# Altium footprint library QFP_Shrink_Sq_50P_Side_N.PcbLib: 32 footprints (part 2 of 3)
Each footprint in its own frame and in the unit in brackets; x right, y up, seen from the top. Pads: shape width x height; smd on the part's side, far side on the other; paste and mask are expansions set on the pad; w line width, h text height; cw(c..) or ccw(c..) is an arc to the next point about the centre after c.
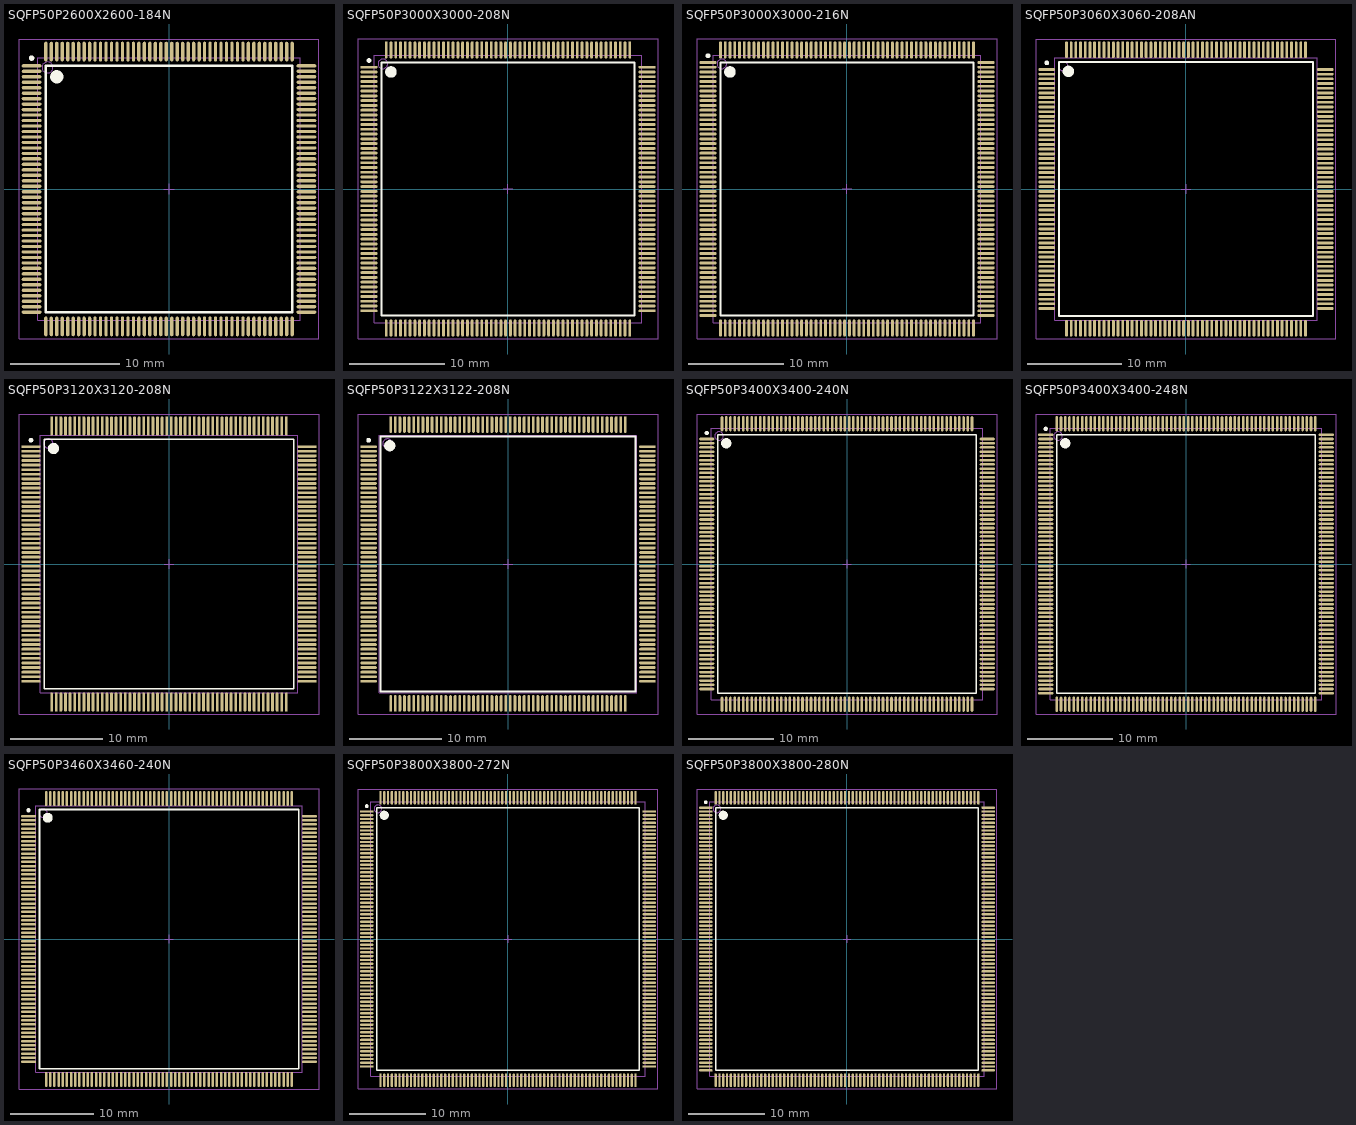
[diagram p1: the footprints below, top view; thin cyan lines are the x and y axes]

## SQFP50P2600X2600-184N [mm] "Shrink QFP, 184-Leads, Body 24x24mm, Pitch 0.5mm, IPC Medium Density"
height 3.2
pads (184):
  oval 1.8x0.3 smd: 1(-12.55,11.25) 2(-12.55,10.75) 3(-12.55,10.25) 4(-12.55,9.75) 5(-12.55,9.25) 6(-12.55,8.75) 7(-12.55,8.25) 8(-12.55,7.75) 9(-12.55,7.25) 10(-12.55,6.75) 11(-12.55,6.25) 12(-12.55,5.75) 13(-12.55,5.25) 14(-12.55,4.75) 15(-12.55,4.25) 16(-12.55,3.75) 17(-12.55,3.25) 18(-12.55,2.75) 19(-12.55,2.25) 20(-12.55,1.75) 21(-12.55,1.25) 22(-12.55,0.75) 23(-12.55,0.25) 24(-12.55,-0.25) 25(-12.55,-0.75) 26(-12.55,-1.25) 27(-12.55,-1.75) 28(-12.55,-2.25) 29(-12.55,-2.75) 30(-12.55,-3.25) 31(-12.55,-3.75) 32(-12.55,-4.25) 33(-12.55,-4.75) 34(-12.55,-5.25) 35(-12.55,-5.75) 36(-12.55,-6.25) 37(-12.55,-6.75) 38(-12.55,-7.25) 39(-12.55,-7.75) 40(-12.55,-8.25) 41(-12.55,-8.75) 42(-12.55,-9.25) 43(-12.55,-9.75) 44(-12.55,-10.25) 45(-12.55,-10.75) 46(-12.55,-11.25) 93(12.55,-11.25) 94(12.55,-10.75) 95(12.55,-10.25) 96(12.55,-9.75) 97(12.55,-9.25) 98(12.55,-8.75) 99(12.55,-8.25) 100(12.55,-7.75) 101(12.55,-7.25) 102(12.55,-6.75) 103(12.55,-6.25) 104(12.55,-5.75) 105(12.55,-5.25) 106(12.55,-4.75) 107(12.55,-4.25) 108(12.55,-3.75) 109(12.55,-3.25) 110(12.55,-2.75) 111(12.55,-2.25) 112(12.55,-1.75) 113(12.55,-1.25) 114(12.55,-0.75) 115(12.55,-0.25) 116(12.55,0.25) 117(12.55,0.75) 118(12.55,1.25) 119(12.55,1.75) 120(12.55,2.25) 121(12.55,2.75) 122(12.55,3.25) 123(12.55,3.75) 124(12.55,4.25) 125(12.55,4.75) 126(12.55,5.25) 127(12.55,5.75) 128(12.55,6.25) 129(12.55,6.75) 130(12.55,7.25) 131(12.55,7.75) 132(12.55,8.25) 133(12.55,8.75) 134(12.55,9.25) 135(12.55,9.75) 136(12.55,10.25) 137(12.55,10.75) 138(12.55,11.25)
  oval 0.3x1.8 smd: 47(-11.25,-12.55) 48(-10.75,-12.55) 49(-10.25,-12.55) 50(-9.75,-12.55) 51(-9.25,-12.55) 52(-8.75,-12.55) 53(-8.25,-12.55) 54(-7.75,-12.55) 55(-7.25,-12.55) 56(-6.75,-12.55) 57(-6.25,-12.55) 58(-5.75,-12.55) 59(-5.25,-12.55) 60(-4.75,-12.55) 61(-4.25,-12.55) 62(-3.75,-12.55) 63(-3.25,-12.55) 64(-2.75,-12.55) 65(-2.25,-12.55) 66(-1.75,-12.55) 67(-1.25,-12.55) 68(-0.75,-12.55) 69(-0.25,-12.55) 70(0.25,-12.55) 71(0.75,-12.55) 72(1.25,-12.55) 73(1.75,-12.55) 74(2.25,-12.55) 75(2.75,-12.55) 76(3.25,-12.55) 77(3.75,-12.55) 78(4.25,-12.55) 79(4.75,-12.55) 80(5.25,-12.55) 81(5.75,-12.55) 82(6.25,-12.55) 83(6.75,-12.55) 84(7.25,-12.55) 85(7.75,-12.55) 86(8.25,-12.55) 87(8.75,-12.55) 88(9.25,-12.55) 89(9.75,-12.55) 90(10.25,-12.55) 91(10.75,-12.55) 92(11.25,-12.55) 139(11.25,12.55) 140(10.75,12.55) 141(10.25,12.55) 142(9.75,12.55) 143(9.25,12.55) 144(8.75,12.55) 145(8.25,12.55) 146(7.75,12.55) 147(7.25,12.55) 148(6.75,12.55) 149(6.25,12.55) 150(5.75,12.55) 151(5.25,12.55) 152(4.75,12.55) 153(4.25,12.55) 154(3.75,12.55) 155(3.25,12.55) 156(2.75,12.55) 157(2.25,12.55) 158(1.75,12.55) 159(1.25,12.55) 160(0.75,12.55) 161(0.25,12.55) 162(-0.25,12.55) 163(-0.75,12.55) 164(-1.25,12.55) 165(-1.75,12.55) 166(-2.25,12.55) 167(-2.75,12.55) 168(-3.25,12.55) 169(-3.75,12.55) 170(-4.25,12.55) 171(-4.75,12.55) 172(-5.25,12.55) 173(-5.75,12.55) 174(-6.25,12.55) 175(-6.75,12.55) 176(-7.25,12.55) 177(-7.75,12.55) 178(-8.25,12.55) 179(-8.75,12.55) 180(-9.25,12.55) 181(-9.75,12.55) 182(-10.25,12.55) 183(-10.75,12.55) 184(-11.25,12.55)
Top Overlay:
  circle w0.6: c-10.25,10.25 r0.3
  circle w0.25: c-12.55,11.95 r0.125
  lines w0.2: -11.25,-11.25 11.25,-11.25 11.25,11.25 -11.25,11.25 -11.25,-11.25
Mechanical 13:
  circle w0.1: c-11.1,11.1 r0.5
  lines w0.1: -12,-12 12,-12 12,12 -12,12 -12,-12
Mechanical 15:
  lines w0.1: -0.5,0 0.5,0 ; 0,-0.5 0,0.5 ; -13.7,-13.7 13.7,-13.7 13.7,13.7 -13.7,13.7 -13.7,-13.7
3D body: height 3.2, standoff 0, extent -12,-12 12,12

## SQFP50P3000X3000-208N [mm] "Shrink QFP, 208-Leads, Body 28x28mm, Pitch 0.5mm, IPC Medium Density"
height 3.75
pads (208):
  oval 1.8x0.3 smd: 1(-14.55,12.75) 2(-14.55,12.25) 3(-14.55,11.75) 4(-14.55,11.25) 5(-14.55,10.75) 6(-14.55,10.25) 7(-14.55,9.75) 8(-14.55,9.25) 9(-14.55,8.75) 10(-14.55,8.25) 11(-14.55,7.75) 12(-14.55,7.25) 13(-14.55,6.75) 14(-14.55,6.25) 15(-14.55,5.75) 16(-14.55,5.25) 17(-14.55,4.75) 18(-14.55,4.25) 19(-14.55,3.75) 20(-14.55,3.25) 21(-14.55,2.75) 22(-14.55,2.25) 23(-14.55,1.75) 24(-14.55,1.25) 25(-14.55,0.75) 26(-14.55,0.25) 27(-14.55,-0.25) 28(-14.55,-0.75) 29(-14.55,-1.25) 30(-14.55,-1.75) 31(-14.55,-2.25) 32(-14.55,-2.75) 33(-14.55,-3.25) 34(-14.55,-3.75) 35(-14.55,-4.25) 36(-14.55,-4.75) 37(-14.55,-5.25) 38(-14.55,-5.75) 39(-14.55,-6.25) 40(-14.55,-6.75) 41(-14.55,-7.25) 42(-14.55,-7.75) 43(-14.55,-8.25) 44(-14.55,-8.75) 45(-14.55,-9.25) 46(-14.55,-9.75) 47(-14.55,-10.25) 48(-14.55,-10.75) 49(-14.55,-11.25) 50(-14.55,-11.75) 51(-14.55,-12.25) 52(-14.55,-12.75) 105(14.55,-12.75) 106(14.55,-12.25) 107(14.55,-11.75) 108(14.55,-11.25) 109(14.55,-10.75) 110(14.55,-10.25) 111(14.55,-9.75) 112(14.55,-9.25) 113(14.55,-8.75) 114(14.55,-8.25) 115(14.55,-7.75) 116(14.55,-7.25) 117(14.55,-6.75) 118(14.55,-6.25) 119(14.55,-5.75) 120(14.55,-5.25) 121(14.55,-4.75) 122(14.55,-4.25) 123(14.55,-3.75) 124(14.55,-3.25) 125(14.55,-2.75) 126(14.55,-2.25) 127(14.55,-1.75) 128(14.55,-1.25) 129(14.55,-0.75) 130(14.55,-0.25) 131(14.55,0.25) 132(14.55,0.75) 133(14.55,1.25) 134(14.55,1.75) 135(14.55,2.25) 136(14.55,2.75) 137(14.55,3.25) 138(14.55,3.75) 139(14.55,4.25) 140(14.55,4.75) 141(14.55,5.25) 142(14.55,5.75) 143(14.55,6.25) 144(14.55,6.75) 145(14.55,7.25) 146(14.55,7.75) 147(14.55,8.25) 148(14.55,8.75) 149(14.55,9.25) 150(14.55,9.75) 151(14.55,10.25) 152(14.55,10.75) 153(14.55,11.25) 154(14.55,11.75) 155(14.55,12.25) 156(14.55,12.75)
  oval 0.3x1.8 smd: 53(-12.75,-14.55) 54(-12.25,-14.55) 55(-11.75,-14.55) 56(-11.25,-14.55) 57(-10.75,-14.55) 58(-10.25,-14.55) 59(-9.75,-14.55) 60(-9.25,-14.55) 61(-8.75,-14.55) 62(-8.25,-14.55) 63(-7.75,-14.55) 64(-7.25,-14.55) 65(-6.75,-14.55) 66(-6.25,-14.55) 67(-5.75,-14.55) 68(-5.25,-14.55) 69(-4.75,-14.55) 70(-4.25,-14.55) 71(-3.75,-14.55) 72(-3.25,-14.55) 73(-2.75,-14.55) 74(-2.25,-14.55) 75(-1.75,-14.55) 76(-1.25,-14.55) 77(-0.75,-14.55) 78(-0.25,-14.55) 79(0.25,-14.55) 80(0.75,-14.55) 81(1.25,-14.55) 82(1.75,-14.55) 83(2.25,-14.55) 84(2.75,-14.55) 85(3.25,-14.55) 86(3.75,-14.55) 87(4.25,-14.55) 88(4.75,-14.55) 89(5.25,-14.55) 90(5.75,-14.55) 91(6.25,-14.55) 92(6.75,-14.55) 93(7.25,-14.55) 94(7.75,-14.55) 95(8.25,-14.55) 96(8.75,-14.55) 97(9.25,-14.55) 98(9.75,-14.55) 99(10.25,-14.55) 100(10.75,-14.55) 101(11.25,-14.55) 102(11.75,-14.55) 103(12.25,-14.55) 104(12.75,-14.55) 157(12.75,14.55) 158(12.25,14.55) 159(11.75,14.55) 160(11.25,14.55) 161(10.75,14.55) 162(10.25,14.55) 163(9.75,14.55) 164(9.25,14.55) 165(8.75,14.55) 166(8.25,14.55) 167(7.75,14.55) 168(7.25,14.55) 169(6.75,14.55) 170(6.25,14.55) 171(5.75,14.55) 172(5.25,14.55) 173(4.75,14.55) 174(4.25,14.55) 175(3.75,14.55) 176(3.25,14.55) 177(2.75,14.55) 178(2.25,14.55) 179(1.75,14.55) 180(1.25,14.55) 181(0.75,14.55) 182(0.25,14.55) 183(-0.25,14.55) 184(-0.75,14.55) 185(-1.25,14.55) 186(-1.75,14.55) 187(-2.25,14.55) 188(-2.75,14.55) 189(-3.25,14.55) 190(-3.75,14.55) 191(-4.25,14.55) 192(-4.75,14.55) 193(-5.25,14.55) 194(-5.75,14.55) 195(-6.25,14.55) 196(-6.75,14.55) 197(-7.25,14.55) 198(-7.75,14.55) 199(-8.25,14.55) 200(-8.75,14.55) 201(-9.25,14.55) 202(-9.75,14.55) 203(-10.25,14.55) 204(-10.75,14.55) 205(-11.25,14.55) 206(-11.75,14.55) 207(-12.25,14.55) 208(-12.75,14.55)
Top Overlay:
  circle w0.6: c-12.25,12.25 r0.3
  circle w0.25: c-14.55,13.45 r0.125
  lines w0.2: -13.25,-13.25 13.25,-13.25 13.25,13.25 -13.25,13.25 -13.25,-13.25
Mechanical 13:
  circle w0.1: c-13.1,13.1 r0.5
  lines w0.1: -14,-14 14,-14 14,14 -14,14 -14,-14
Mechanical 15:
  lines w0.1: -0.5,0 0.5,0 ; 0,-0.5 0,0.5 ; -15.7,-15.7 15.7,-15.7 15.7,15.7 -15.7,15.7 -15.7,-15.7
3D body: height 3.75, standoff 0, extent -14,-14 14,14

## SQFP50P3000X3000-216N [mm] "Shrink QFP, 216-Leads, Body 28x28mm, Pitch 0.5mm, IPC Medium Density"
height 3.75
pads (216):
  oval 1.8x0.3 smd: 1(-14.55,13.25) 2(-14.55,12.75) 3(-14.55,12.25) 4(-14.55,11.75) 5(-14.55,11.25) 6(-14.55,10.75) 7(-14.55,10.25) 8(-14.55,9.75) 9(-14.55,9.25) 10(-14.55,8.75) 11(-14.55,8.25) 12(-14.55,7.75) 13(-14.55,7.25) 14(-14.55,6.75) 15(-14.55,6.25) 16(-14.55,5.75) 17(-14.55,5.25) 18(-14.55,4.75) 19(-14.55,4.25) 20(-14.55,3.75) 21(-14.55,3.25) 22(-14.55,2.75) 23(-14.55,2.25) 24(-14.55,1.75) 25(-14.55,1.25) 26(-14.55,0.75) 27(-14.55,0.25) 28(-14.55,-0.25) 29(-14.55,-0.75) 30(-14.55,-1.25) 31(-14.55,-1.75) 32(-14.55,-2.25) 33(-14.55,-2.75) 34(-14.55,-3.25) 35(-14.55,-3.75) 36(-14.55,-4.25) 37(-14.55,-4.75) 38(-14.55,-5.25) 39(-14.55,-5.75) 40(-14.55,-6.25) 41(-14.55,-6.75) 42(-14.55,-7.25) 43(-14.55,-7.75) 44(-14.55,-8.25) 45(-14.55,-8.75) 46(-14.55,-9.25) 47(-14.55,-9.75) 48(-14.55,-10.25) 49(-14.55,-10.75) 50(-14.55,-11.25) 51(-14.55,-11.75) 52(-14.55,-12.25) 53(-14.55,-12.75) 54(-14.55,-13.25) 109(14.55,-13.25) 110(14.55,-12.75) 111(14.55,-12.25) 112(14.55,-11.75) 113(14.55,-11.25) 114(14.55,-10.75) 115(14.55,-10.25) 116(14.55,-9.75) 117(14.55,-9.25) 118(14.55,-8.75) 119(14.55,-8.25) 120(14.55,-7.75) 121(14.55,-7.25) 122(14.55,-6.75) 123(14.55,-6.25) 124(14.55,-5.75) 125(14.55,-5.25) 126(14.55,-4.75) 127(14.55,-4.25) 128(14.55,-3.75) 129(14.55,-3.25) 130(14.55,-2.75) 131(14.55,-2.25) 132(14.55,-1.75) 133(14.55,-1.25) 134(14.55,-0.75) 135(14.55,-0.25) 136(14.55,0.25) 137(14.55,0.75) 138(14.55,1.25) 139(14.55,1.75) 140(14.55,2.25) 141(14.55,2.75) 142(14.55,3.25) 143(14.55,3.75) 144(14.55,4.25) 145(14.55,4.75) 146(14.55,5.25) 147(14.55,5.75) 148(14.55,6.25) 149(14.55,6.75) 150(14.55,7.25) 151(14.55,7.75) 152(14.55,8.25) 153(14.55,8.75) 154(14.55,9.25) 155(14.55,9.75) 156(14.55,10.25) 157(14.55,10.75) 158(14.55,11.25) 159(14.55,11.75) 160(14.55,12.25) 161(14.55,12.75) 162(14.55,13.25)
  oval 0.3x1.8 smd: 55(-13.25,-14.55) 56(-12.75,-14.55) 57(-12.25,-14.55) 58(-11.75,-14.55) 59(-11.25,-14.55) 60(-10.75,-14.55) 61(-10.25,-14.55) 62(-9.75,-14.55) 63(-9.25,-14.55) 64(-8.75,-14.55) 65(-8.25,-14.55) 66(-7.75,-14.55) 67(-7.25,-14.55) 68(-6.75,-14.55) 69(-6.25,-14.55) 70(-5.75,-14.55) 71(-5.25,-14.55) 72(-4.75,-14.55) 73(-4.25,-14.55) 74(-3.75,-14.55) 75(-3.25,-14.55) 76(-2.75,-14.55) 77(-2.25,-14.55) 78(-1.75,-14.55) 79(-1.25,-14.55) 80(-0.75,-14.55) 81(-0.25,-14.55) 82(0.25,-14.55) 83(0.75,-14.55) 84(1.25,-14.55) 85(1.75,-14.55) 86(2.25,-14.55) 87(2.75,-14.55) 88(3.25,-14.55) 89(3.75,-14.55) 90(4.25,-14.55) 91(4.75,-14.55) 92(5.25,-14.55) 93(5.75,-14.55) 94(6.25,-14.55) 95(6.75,-14.55) 96(7.25,-14.55) 97(7.75,-14.55) 98(8.25,-14.55) 99(8.75,-14.55) 100(9.25,-14.55) 101(9.75,-14.55) 102(10.25,-14.55) 103(10.75,-14.55) 104(11.25,-14.55) 105(11.75,-14.55) 106(12.25,-14.55) 107(12.75,-14.55) 108(13.25,-14.55) 163(13.25,14.55) 164(12.75,14.55) 165(12.25,14.55) 166(11.75,14.55) 167(11.25,14.55) 168(10.75,14.55) 169(10.25,14.55) 170(9.75,14.55) 171(9.25,14.55) 172(8.75,14.55) 173(8.25,14.55) 174(7.75,14.55) 175(7.25,14.55) 176(6.75,14.55) 177(6.25,14.55) 178(5.75,14.55) 179(5.25,14.55) 180(4.75,14.55) 181(4.25,14.55) 182(3.75,14.55) 183(3.25,14.55) 184(2.75,14.55) 185(2.25,14.55) 186(1.75,14.55) 187(1.25,14.55) 188(0.75,14.55) 189(0.25,14.55) 190(-0.25,14.55) 191(-0.75,14.55) 192(-1.25,14.55) 193(-1.75,14.55) 194(-2.25,14.55) 195(-2.75,14.55) 196(-3.25,14.55) 197(-3.75,14.55) 198(-4.25,14.55) 199(-4.75,14.55) 200(-5.25,14.55) 201(-5.75,14.55) 202(-6.25,14.55) 203(-6.75,14.55) 204(-7.25,14.55) 205(-7.75,14.55) 206(-8.25,14.55) 207(-8.75,14.55) 208(-9.25,14.55) 209(-9.75,14.55) 210(-10.25,14.55) 211(-10.75,14.55) 212(-11.25,14.55) 213(-11.75,14.55) 214(-12.25,14.55) 215(-12.75,14.55) 216(-13.25,14.55)
Top Overlay:
  circle w0.6: c-12.25,12.25 r0.3
  circle w0.25: c-14.55,13.95 r0.125
  lines w0.2: -13.25,-13.25 13.25,-13.25 13.25,13.25 -13.25,13.25 -13.25,-13.25
Mechanical 13:
  circle w0.1: c-13.1,13.1 r0.5
  lines w0.1: -14,-14 14,-14 14,14 -14,14 -14,-14
Mechanical 15:
  lines w0.1: -0.5,0 0.5,0 ; 0,-0.5 0,0.5 ; -15.7,-15.7 15.7,-15.7 15.7,15.7 -15.7,15.7 -15.7,-15.7
3D body: height 3.75, standoff 0, extent -14,-14 14,14

## SQFP50P3060X3060-208AN [mm] "Shrink QFP, 208-Leads, Body 28x28mm, Pitch 0.5mm, IPC Medium Density"
height 4.1
pads (208):
  oval 1.8x0.3 smd: 1(-14.85,12.75) 2(-14.85,12.25) 3(-14.85,11.75) 4(-14.85,11.25) 5(-14.85,10.75) 6(-14.85,10.25) 7(-14.85,9.75) 8(-14.85,9.25) 9(-14.85,8.75) 10(-14.85,8.25) 11(-14.85,7.75) 12(-14.85,7.25) 13(-14.85,6.75) 14(-14.85,6.25) 15(-14.85,5.75) 16(-14.85,5.25) 17(-14.85,4.75) 18(-14.85,4.25) 19(-14.85,3.75) 20(-14.85,3.25) 21(-14.85,2.75) 22(-14.85,2.25) 23(-14.85,1.75) 24(-14.85,1.25) 25(-14.85,0.75) 26(-14.85,0.25) 27(-14.85,-0.25) 28(-14.85,-0.75) 29(-14.85,-1.25) 30(-14.85,-1.75) 31(-14.85,-2.25) 32(-14.85,-2.75) 33(-14.85,-3.25) 34(-14.85,-3.75) 35(-14.85,-4.25) 36(-14.85,-4.75) 37(-14.85,-5.25) 38(-14.85,-5.75) 39(-14.85,-6.25) 40(-14.85,-6.75) 41(-14.85,-7.25) 42(-14.85,-7.75) 43(-14.85,-8.25) 44(-14.85,-8.75) 45(-14.85,-9.25) 46(-14.85,-9.75) 47(-14.85,-10.25) 48(-14.85,-10.75) 49(-14.85,-11.25) 50(-14.85,-11.75) 51(-14.85,-12.25) 52(-14.85,-12.75) 105(14.85,-12.75) 106(14.85,-12.25) 107(14.85,-11.75) 108(14.85,-11.25) 109(14.85,-10.75) 110(14.85,-10.25) 111(14.85,-9.75) 112(14.85,-9.25) 113(14.85,-8.75) 114(14.85,-8.25) 115(14.85,-7.75) 116(14.85,-7.25) 117(14.85,-6.75) 118(14.85,-6.25) 119(14.85,-5.75) 120(14.85,-5.25) 121(14.85,-4.75) 122(14.85,-4.25) 123(14.85,-3.75) 124(14.85,-3.25) 125(14.85,-2.75) 126(14.85,-2.25) 127(14.85,-1.75) 128(14.85,-1.25) 129(14.85,-0.75) 130(14.85,-0.25) 131(14.85,0.25) 132(14.85,0.75) 133(14.85,1.25) 134(14.85,1.75) 135(14.85,2.25) 136(14.85,2.75) 137(14.85,3.25) 138(14.85,3.75) 139(14.85,4.25) 140(14.85,4.75) 141(14.85,5.25) 142(14.85,5.75) 143(14.85,6.25) 144(14.85,6.75) 145(14.85,7.25) 146(14.85,7.75) 147(14.85,8.25) 148(14.85,8.75) 149(14.85,9.25) 150(14.85,9.75) 151(14.85,10.25) 152(14.85,10.75) 153(14.85,11.25) 154(14.85,11.75) 155(14.85,12.25) 156(14.85,12.75)
  oval 0.3x1.8 smd: 53(-12.75,-14.85) 54(-12.25,-14.85) 55(-11.75,-14.85) 56(-11.25,-14.85) 57(-10.75,-14.85) 58(-10.25,-14.85) 59(-9.75,-14.85) 60(-9.25,-14.85) 61(-8.75,-14.85) 62(-8.25,-14.85) 63(-7.75,-14.85) 64(-7.25,-14.85) 65(-6.75,-14.85) 66(-6.25,-14.85) 67(-5.75,-14.85) 68(-5.25,-14.85) 69(-4.75,-14.85) 70(-4.25,-14.85) 71(-3.75,-14.85) 72(-3.25,-14.85) 73(-2.75,-14.85) 74(-2.25,-14.85) 75(-1.75,-14.85) 76(-1.25,-14.85) 77(-0.75,-14.85) 78(-0.25,-14.85) 79(0.25,-14.85) 80(0.75,-14.85) 81(1.25,-14.85) 82(1.75,-14.85) 83(2.25,-14.85) 84(2.75,-14.85) 85(3.25,-14.85) 86(3.75,-14.85) 87(4.25,-14.85) 88(4.75,-14.85) 89(5.25,-14.85) 90(5.75,-14.85) 91(6.25,-14.85) 92(6.75,-14.85) 93(7.25,-14.85) 94(7.75,-14.85) 95(8.25,-14.85) 96(8.75,-14.85) 97(9.25,-14.85) 98(9.75,-14.85) 99(10.25,-14.85) 100(10.75,-14.85) 101(11.25,-14.85) 102(11.75,-14.85) 103(12.25,-14.85) 104(12.75,-14.85) 157(12.75,14.85) 158(12.25,14.85) 159(11.75,14.85) 160(11.25,14.85) 161(10.75,14.85) 162(10.25,14.85) 163(9.75,14.85) 164(9.25,14.85) 165(8.75,14.85) 166(8.25,14.85) 167(7.75,14.85) 168(7.25,14.85) 169(6.75,14.85) 170(6.25,14.85) 171(5.75,14.85) 172(5.25,14.85) 173(4.75,14.85) 174(4.25,14.85) 175(3.75,14.85) 176(3.25,14.85) 177(2.75,14.85) 178(2.25,14.85) 179(1.75,14.85) 180(1.25,14.85) 181(0.75,14.85) 182(0.25,14.85) 183(-0.25,14.85) 184(-0.75,14.85) 185(-1.25,14.85) 186(-1.75,14.85) 187(-2.25,14.85) 188(-2.75,14.85) 189(-3.25,14.85) 190(-3.75,14.85) 191(-4.25,14.85) 192(-4.75,14.85) 193(-5.25,14.85) 194(-5.75,14.85) 195(-6.25,14.85) 196(-6.75,14.85) 197(-7.25,14.85) 198(-7.75,14.85) 199(-8.25,14.85) 200(-8.75,14.85) 201(-9.25,14.85) 202(-9.75,14.85) 203(-10.25,14.85) 204(-10.75,14.85) 205(-11.25,14.85) 206(-11.75,14.85) 207(-12.25,14.85) 208(-12.75,14.85)
Top Overlay:
  circle w0.6: c-12.55,12.55 r0.3
  circle w0.25: c-14.85,13.45 r0.125
  lines w0.2: -13.55,-13.55 13.55,-13.55 13.55,13.55 -13.55,13.55 -13.55,-13.55
Mechanical 13:
  circle w0.1: c-13.1,13.1 r0.5
  lines w0.1: -14,-14 14,-14 14,14 -14,14 -14,-14
Mechanical 15:
  lines w0.1: -0.5,0 0.5,0 ; 0,-0.5 0,0.5 ; -16,-16 16,-16 16,16 -16,16 -16,-16
3D body: height 4.1, standoff 0, extent -14,-14 14,14

## SQFP50P3120X3120-208N [mm] "Shrink QFP, 208-Leads, Body 28x28mm, Pitch 0.5mm, IPC Medium Density"
height 4.1
pads (208):
  oval 2.1x0.3 smd: 1(-15,12.75) 2(-15,12.25) 3(-15,11.75) 4(-15,11.25) 5(-15,10.75) 6(-15,10.25) 7(-15,9.75) 8(-15,9.25) 9(-15,8.75) 10(-15,8.25) 11(-15,7.75) 12(-15,7.25) 13(-15,6.75) 14(-15,6.25) 15(-15,5.75) 16(-15,5.25) 17(-15,4.75) 18(-15,4.25) 19(-15,3.75) 20(-15,3.25) 21(-15,2.75) 22(-15,2.25) 23(-15,1.75) 24(-15,1.25) 25(-15,0.75) 26(-15,0.25) 27(-15,-0.25) 28(-15,-0.75) 29(-15,-1.25) 30(-15,-1.75) 31(-15,-2.25) 32(-15,-2.75) 33(-15,-3.25) 34(-15,-3.75) 35(-15,-4.25) 36(-15,-4.75) 37(-15,-5.25) 38(-15,-5.75) 39(-15,-6.25) 40(-15,-6.75) 41(-15,-7.25) 42(-15,-7.75) 43(-15,-8.25) 44(-15,-8.75) 45(-15,-9.25) 46(-15,-9.75) 47(-15,-10.25) 48(-15,-10.75) 49(-15,-11.25) 50(-15,-11.75) 51(-15,-12.25) 52(-15,-12.75) 105(15,-12.75) 106(15,-12.25) 107(15,-11.75) 108(15,-11.25) 109(15,-10.75) 110(15,-10.25) 111(15,-9.75) 112(15,-9.25) 113(15,-8.75) 114(15,-8.25) 115(15,-7.75) 116(15,-7.25) 117(15,-6.75) 118(15,-6.25) 119(15,-5.75) 120(15,-5.25) 121(15,-4.75) 122(15,-4.25) 123(15,-3.75) 124(15,-3.25) 125(15,-2.75) 126(15,-2.25) 127(15,-1.75) 128(15,-1.25) 129(15,-0.75) 130(15,-0.25) 131(15,0.25) 132(15,0.75) 133(15,1.25) 134(15,1.75) 135(15,2.25) 136(15,2.75) 137(15,3.25) 138(15,3.75) 139(15,4.25) 140(15,4.75) 141(15,5.25) 142(15,5.75) 143(15,6.25) 144(15,6.75) 145(15,7.25) 146(15,7.75) 147(15,8.25) 148(15,8.75) 149(15,9.25) 150(15,9.75) 151(15,10.25) 152(15,10.75) 153(15,11.25) 154(15,11.75) 155(15,12.25) 156(15,12.75)
  oval 0.3x2.1 smd: 53(-12.75,-15) 54(-12.25,-15) 55(-11.75,-15) 56(-11.25,-15) 57(-10.75,-15) 58(-10.25,-15) 59(-9.75,-15) 60(-9.25,-15) 61(-8.75,-15) 62(-8.25,-15) 63(-7.75,-15) 64(-7.25,-15) 65(-6.75,-15) 66(-6.25,-15) 67(-5.75,-15) 68(-5.25,-15) 69(-4.75,-15) 70(-4.25,-15) 71(-3.75,-15) 72(-3.25,-15) 73(-2.75,-15) 74(-2.25,-15) 75(-1.75,-15) 76(-1.25,-15) 77(-0.75,-15) 78(-0.25,-15) 79(0.25,-15) 80(0.75,-15) 81(1.25,-15) 82(1.75,-15) 83(2.25,-15) 84(2.75,-15) 85(3.25,-15) 86(3.75,-15) 87(4.25,-15) 88(4.75,-15) 89(5.25,-15) 90(5.75,-15) 91(6.25,-15) 92(6.75,-15) 93(7.25,-15) 94(7.75,-15) 95(8.25,-15) 96(8.75,-15) 97(9.25,-15) 98(9.75,-15) 99(10.25,-15) 100(10.75,-15) 101(11.25,-15) 102(11.75,-15) 103(12.25,-15) 104(12.75,-15) 157(12.75,15) 158(12.25,15) 159(11.75,15) 160(11.25,15) 161(10.75,15) 162(10.25,15) 163(9.75,15) 164(9.25,15) 165(8.75,15) 166(8.25,15) 167(7.75,15) 168(7.25,15) 169(6.75,15) 170(6.25,15) 171(5.75,15) 172(5.25,15) 173(4.75,15) 174(4.25,15) 175(3.75,15) 176(3.25,15) 177(2.75,15) 178(2.25,15) 179(1.75,15) 180(1.25,15) 181(0.75,15) 182(0.25,15) 183(-0.25,15) 184(-0.75,15) 185(-1.25,15) 186(-1.75,15) 187(-2.25,15) 188(-2.75,15) 189(-3.25,15) 190(-3.75,15) 191(-4.25,15) 192(-4.75,15) 193(-5.25,15) 194(-5.75,15) 195(-6.25,15) 196(-6.75,15) 197(-7.25,15) 198(-7.75,15) 199(-8.25,15) 200(-8.75,15) 201(-9.25,15) 202(-9.75,15) 203(-10.25,15) 204(-10.75,15) 205(-11.25,15) 206(-11.75,15) 207(-12.25,15) 208(-12.75,15)
Top Overlay:
  circle w0.6: c-12.55,12.55 r0.3
  circle w0.25: c-15,13.45 r0.125
  lines w0.2: -13.55,-13.55 13.55,-13.55 13.55,13.55 -13.55,13.55 -13.55,-13.55
Mechanical 13:
  circle w0.1: c-13.1,13.1 r0.5
  lines w0.1: -14,-14 14,-14 14,14 -14,14 -14,-14
Mechanical 15:
  lines w0.1: -0.5,0 0.5,0 ; 0,-0.5 0,0.5 ; -16.3,-16.3 16.3,-16.3 16.3,16.3 -16.3,16.3 -16.3,-16.3
3D body: height 4.1, standoff 0, extent -14,-14 14,14

## SQFP50P3122X3122-208N [mm] "Shrink QFP, 208-Leads, Body 28x28mm, Pitch 0.5mm, IPC Medium Density"
height 2.94
pads (208):
  oval 1.8x0.3 smd: 1(-15.15,12.75) 2(-15.15,12.25) 3(-15.15,11.75) 4(-15.15,11.25) 5(-15.15,10.75) 6(-15.15,10.25) 7(-15.15,9.75) 8(-15.15,9.25) 9(-15.15,8.75) 10(-15.15,8.25) 11(-15.15,7.75) 12(-15.15,7.25) 13(-15.15,6.75) 14(-15.15,6.25) 15(-15.15,5.75) 16(-15.15,5.25) 17(-15.15,4.75) 18(-15.15,4.25) 19(-15.15,3.75) 20(-15.15,3.25) 21(-15.15,2.75) 22(-15.15,2.25) 23(-15.15,1.75) 24(-15.15,1.25) 25(-15.15,0.75) 26(-15.15,0.25) 27(-15.15,-0.25) 28(-15.15,-0.75) 29(-15.15,-1.25) 30(-15.15,-1.75) 31(-15.15,-2.25) 32(-15.15,-2.75) 33(-15.15,-3.25) 34(-15.15,-3.75) 35(-15.15,-4.25) 36(-15.15,-4.75) 37(-15.15,-5.25) 38(-15.15,-5.75) 39(-15.15,-6.25) 40(-15.15,-6.75) 41(-15.15,-7.25) 42(-15.15,-7.75) 43(-15.15,-8.25) 44(-15.15,-8.75) 45(-15.15,-9.25) 46(-15.15,-9.75) 47(-15.15,-10.25) 48(-15.15,-10.75) 49(-15.15,-11.25) 50(-15.15,-11.75) 51(-15.15,-12.25) 52(-15.15,-12.75) 105(15.15,-12.75) 106(15.15,-12.25) 107(15.15,-11.75) 108(15.15,-11.25) 109(15.15,-10.75) 110(15.15,-10.25) 111(15.15,-9.75) 112(15.15,-9.25) 113(15.15,-8.75) 114(15.15,-8.25) 115(15.15,-7.75) 116(15.15,-7.25) 117(15.15,-6.75) 118(15.15,-6.25) 119(15.15,-5.75) 120(15.15,-5.25) 121(15.15,-4.75) 122(15.15,-4.25) 123(15.15,-3.75) 124(15.15,-3.25) 125(15.15,-2.75) 126(15.15,-2.25) 127(15.15,-1.75) 128(15.15,-1.25) 129(15.15,-0.75) 130(15.15,-0.25) 131(15.15,0.25) 132(15.15,0.75) 133(15.15,1.25) 134(15.15,1.75) 135(15.15,2.25) 136(15.15,2.75) 137(15.15,3.25) 138(15.15,3.75) 139(15.15,4.25) 140(15.15,4.75) 141(15.15,5.25) 142(15.15,5.75) 143(15.15,6.25) 144(15.15,6.75) 145(15.15,7.25) 146(15.15,7.75) 147(15.15,8.25) 148(15.15,8.75) 149(15.15,9.25) 150(15.15,9.75) 151(15.15,10.25) 152(15.15,10.75) 153(15.15,11.25) 154(15.15,11.75) 155(15.15,12.25) 156(15.15,12.75)
  oval 0.3x1.8 smd: 53(-12.75,-15.15) 54(-12.25,-15.15) 55(-11.75,-15.15) 56(-11.25,-15.15) 57(-10.75,-15.15) 58(-10.25,-15.15) 59(-9.75,-15.15) 60(-9.25,-15.15) 61(-8.75,-15.15) 62(-8.25,-15.15) 63(-7.75,-15.15) 64(-7.25,-15.15) 65(-6.75,-15.15) 66(-6.25,-15.15) 67(-5.75,-15.15) 68(-5.25,-15.15) 69(-4.75,-15.15) 70(-4.25,-15.15) 71(-3.75,-15.15) 72(-3.25,-15.15) 73(-2.75,-15.15) 74(-2.25,-15.15) 75(-1.75,-15.15) 76(-1.25,-15.15) 77(-0.75,-15.15) 78(-0.25,-15.15) 79(0.25,-15.15) 80(0.75,-15.15) 81(1.25,-15.15) 82(1.75,-15.15) 83(2.25,-15.15) 84(2.75,-15.15) 85(3.25,-15.15) 86(3.75,-15.15) 87(4.25,-15.15) 88(4.75,-15.15) 89(5.25,-15.15) 90(5.75,-15.15) 91(6.25,-15.15) 92(6.75,-15.15) 93(7.25,-15.15) 94(7.75,-15.15) 95(8.25,-15.15) 96(8.75,-15.15) 97(9.25,-15.15) 98(9.75,-15.15) 99(10.25,-15.15) 100(10.75,-15.15) 101(11.25,-15.15) 102(11.75,-15.15) 103(12.25,-15.15) 104(12.75,-15.15) 157(12.75,15.15) 158(12.25,15.15) 159(11.75,15.15) 160(11.25,15.15) 161(10.75,15.15) 162(10.25,15.15) 163(9.75,15.15) 164(9.25,15.15) 165(8.75,15.15) 166(8.25,15.15) 167(7.75,15.15) 168(7.25,15.15) 169(6.75,15.15) 170(6.25,15.15) 171(5.75,15.15) 172(5.25,15.15) 173(4.75,15.15) 174(4.25,15.15) 175(3.75,15.15) 176(3.25,15.15) 177(2.75,15.15) 178(2.25,15.15) 179(1.75,15.15) 180(1.25,15.15) 181(0.75,15.15) 182(0.25,15.15) 183(-0.25,15.15) 184(-0.75,15.15) 185(-1.25,15.15) 186(-1.75,15.15) 187(-2.25,15.15) 188(-2.75,15.15) 189(-3.25,15.15) 190(-3.75,15.15) 191(-4.25,15.15) 192(-4.75,15.15) 193(-5.25,15.15) 194(-5.75,15.15) 195(-6.25,15.15) 196(-6.75,15.15) 197(-7.25,15.15) 198(-7.75,15.15) 199(-8.25,15.15) 200(-8.75,15.15) 201(-9.25,15.15) 202(-9.75,15.15) 203(-10.25,15.15) 204(-10.75,15.15) 205(-11.25,15.15) 206(-11.75,15.15) 207(-12.25,15.15) 208(-12.75,15.15)
Top Overlay:
  circle w0.6: c-12.85,12.85 r0.3
  circle w0.25: c-15.15,13.45 r0.125
  lines w0.2: -13.85,-13.85 13.85,-13.85 13.85,13.85 -13.85,13.85 -13.85,-13.85
Mechanical 13:
  circle w0.1: c-13.1,13.1 r0.5
  lines w0.1: -14,-14 14,-14 14,14 -14,14 -14,-14
Mechanical 15:
  lines w0.1: -0.5,0 0.5,0 ; 0,-0.5 0,0.5 ; -16.3,-16.3 16.3,-16.3 16.3,16.3 -16.3,16.3 -16.3,-16.3
3D body: height 2.94, standoff 0, extent -14,-14 14,14

## SQFP50P3400X3400-240N [mm] "Shrink QFP, 240-Leads, Body 32x32mm, Pitch 0.5mm, IPC Medium Density"
height 4.2
pads (240):
  oval 1.8x0.3 smd: 1(-16.55,14.75) 2(-16.55,14.25) 3(-16.55,13.75) 4(-16.55,13.25) 5(-16.55,12.75) 6(-16.55,12.25) 7(-16.55,11.75) 8(-16.55,11.25) 9(-16.55,10.75) 10(-16.55,10.25) 11(-16.55,9.75) 12(-16.55,9.25) 13(-16.55,8.75) 14(-16.55,8.25) 15(-16.55,7.75) 16(-16.55,7.25) 17(-16.55,6.75) 18(-16.55,6.25) 19(-16.55,5.75) 20(-16.55,5.25) 21(-16.55,4.75) 22(-16.55,4.25) 23(-16.55,3.75) 24(-16.55,3.25) 25(-16.55,2.75) 26(-16.55,2.25) 27(-16.55,1.75) 28(-16.55,1.25) 29(-16.55,0.75) 30(-16.55,0.25) 31(-16.55,-0.25) 32(-16.55,-0.75) 33(-16.55,-1.25) 34(-16.55,-1.75) 35(-16.55,-2.25) 36(-16.55,-2.75) 37(-16.55,-3.25) 38(-16.55,-3.75) 39(-16.55,-4.25) 40(-16.55,-4.75) 41(-16.55,-5.25) 42(-16.55,-5.75) 43(-16.55,-6.25) 44(-16.55,-6.75) 45(-16.55,-7.25) 46(-16.55,-7.75) 47(-16.55,-8.25) 48(-16.55,-8.75) 49(-16.55,-9.25) 50(-16.55,-9.75) 51(-16.55,-10.25) 52(-16.55,-10.75) 53(-16.55,-11.25) 54(-16.55,-11.75) 55(-16.55,-12.25) 56(-16.55,-12.75) 57(-16.55,-13.25) 58(-16.55,-13.75) 59(-16.55,-14.25) 60(-16.55,-14.75) 121(16.55,-14.75) 122(16.55,-14.25) 123(16.55,-13.75) 124(16.55,-13.25) 125(16.55,-12.75) 126(16.55,-12.25) 127(16.55,-11.75) 128(16.55,-11.25) 129(16.55,-10.75) 130(16.55,-10.25) 131(16.55,-9.75) 132(16.55,-9.25) 133(16.55,-8.75) 134(16.55,-8.25) 135(16.55,-7.75) 136(16.55,-7.25) 137(16.55,-6.75) 138(16.55,-6.25) 139(16.55,-5.75) 140(16.55,-5.25) 141(16.55,-4.75) 142(16.55,-4.25) 143(16.55,-3.75) 144(16.55,-3.25) 145(16.55,-2.75) 146(16.55,-2.25) 147(16.55,-1.75) 148(16.55,-1.25) 149(16.55,-0.75) 150(16.55,-0.25) 151(16.55,0.25) 152(16.55,0.75) 153(16.55,1.25) 154(16.55,1.75) 155(16.55,2.25) 156(16.55,2.75) 157(16.55,3.25) 158(16.55,3.75) 159(16.55,4.25) 160(16.55,4.75) 161(16.55,5.25) 162(16.55,5.75) 163(16.55,6.25) 164(16.55,6.75) 165(16.55,7.25) 166(16.55,7.75) 167(16.55,8.25) 168(16.55,8.75) 169(16.55,9.25) 170(16.55,9.75) 171(16.55,10.25) 172(16.55,10.75) 173(16.55,11.25) 174(16.55,11.75) 175(16.55,12.25) 176(16.55,12.75) 177(16.55,13.25) 178(16.55,13.75) 179(16.55,14.25) 180(16.55,14.75)
  oval 0.3x1.8 smd: 61(-14.75,-16.55) 62(-14.25,-16.55) 63(-13.75,-16.55) 64(-13.25,-16.55) 65(-12.75,-16.55) 66(-12.25,-16.55) 67(-11.75,-16.55) 68(-11.25,-16.55) 69(-10.75,-16.55) 70(-10.25,-16.55) 71(-9.75,-16.55) 72(-9.25,-16.55) 73(-8.75,-16.55) 74(-8.25,-16.55) 75(-7.75,-16.55) 76(-7.25,-16.55) 77(-6.75,-16.55) 78(-6.25,-16.55) 79(-5.75,-16.55) 80(-5.25,-16.55) 81(-4.75,-16.55) 82(-4.25,-16.55) 83(-3.75,-16.55) 84(-3.25,-16.55) 85(-2.75,-16.55) 86(-2.25,-16.55) 87(-1.75,-16.55) 88(-1.25,-16.55) 89(-0.75,-16.55) 90(-0.25,-16.55) 91(0.25,-16.55) 92(0.75,-16.55) 93(1.25,-16.55) 94(1.75,-16.55) 95(2.25,-16.55) 96(2.75,-16.55) 97(3.25,-16.55) 98(3.75,-16.55) 99(4.25,-16.55) 100(4.75,-16.55) 101(5.25,-16.55) 102(5.75,-16.55) 103(6.25,-16.55) 104(6.75,-16.55) 105(7.25,-16.55) 106(7.75,-16.55) 107(8.25,-16.55) 108(8.75,-16.55) 109(9.25,-16.55) 110(9.75,-16.55) 111(10.25,-16.55) 112(10.75,-16.55) 113(11.25,-16.55) 114(11.75,-16.55) 115(12.25,-16.55) 116(12.75,-16.55) 117(13.25,-16.55) 118(13.75,-16.55) 119(14.25,-16.55) 120(14.75,-16.55) 181(14.75,16.55) 182(14.25,16.55) 183(13.75,16.55) 184(13.25,16.55) 185(12.75,16.55) 186(12.25,16.55) 187(11.75,16.55) 188(11.25,16.55) 189(10.75,16.55) 190(10.25,16.55) 191(9.75,16.55) 192(9.25,16.55) 193(8.75,16.55) 194(8.25,16.55) 195(7.75,16.55) 196(7.25,16.55) 197(6.75,16.55) 198(6.25,16.55) 199(5.75,16.55) 200(5.25,16.55) 201(4.75,16.55) 202(4.25,16.55) 203(3.75,16.55) 204(3.25,16.55) 205(2.75,16.55) 206(2.25,16.55) 207(1.75,16.55) 208(1.25,16.55) 209(0.75,16.55) 210(0.25,16.55) 211(-0.25,16.55) 212(-0.75,16.55) 213(-1.25,16.55) 214(-1.75,16.55) 215(-2.25,16.55) 216(-2.75,16.55) 217(-3.25,16.55) 218(-3.75,16.55) 219(-4.25,16.55) 220(-4.75,16.55) 221(-5.25,16.55) 222(-5.75,16.55) 223(-6.25,16.55) 224(-6.75,16.55) 225(-7.25,16.55) 226(-7.75,16.55) 227(-8.25,16.55) 228(-8.75,16.55) 229(-9.25,16.55) 230(-9.75,16.55) 231(-10.25,16.55) 232(-10.75,16.55) 233(-11.25,16.55) 234(-11.75,16.55) 235(-12.25,16.55) 236(-12.75,16.55) 237(-13.25,16.55) 238(-13.75,16.55) 239(-14.25,16.55) 240(-14.75,16.55)
Top Overlay:
  circle w0.6: c-14.25,14.25 r0.3
  circle w0.25: c-16.55,15.45 r0.125
  lines w0.2: -15.25,-15.25 15.25,-15.25 15.25,15.25 -15.25,15.25 -15.25,-15.25
Mechanical 13:
  circle w0.1: c-15.1,15.1 r0.5
  lines w0.1: -16,-16 16,-16 16,16 -16,16 -16,-16
Mechanical 15:
  lines w0.1: -0.5,0 0.5,0 ; 0,-0.5 0,0.5 ; -17.7,-17.7 17.7,-17.7 17.7,17.7 -17.7,17.7 -17.7,-17.7
3D body: height 4.2, standoff 0, extent -16,-16 16,16

## SQFP50P3400X3400-248N [mm] "Shrink QFP, 248-Leads, Body 32x32mm, Pitch 0.5mm, IPC Medium Density"
height 4.2
pads (248):
  oval 1.8x0.3 smd: 1(-16.55,15.25) 2(-16.55,14.75) 3(-16.55,14.25) 4(-16.55,13.75) 5(-16.55,13.25) 6(-16.55,12.75) 7(-16.55,12.25) 8(-16.55,11.75) 9(-16.55,11.25) 10(-16.55,10.75) 11(-16.55,10.25) 12(-16.55,9.75) 13(-16.55,9.25) 14(-16.55,8.75) 15(-16.55,8.25) 16(-16.55,7.75) 17(-16.55,7.25) 18(-16.55,6.75) 19(-16.55,6.25) 20(-16.55,5.75) 21(-16.55,5.25) 22(-16.55,4.75) 23(-16.55,4.25) 24(-16.55,3.75) 25(-16.55,3.25) 26(-16.55,2.75) 27(-16.55,2.25) 28(-16.55,1.75) 29(-16.55,1.25) 30(-16.55,0.75) 31(-16.55,0.25) 32(-16.55,-0.25) 33(-16.55,-0.75) 34(-16.55,-1.25) 35(-16.55,-1.75) 36(-16.55,-2.25) 37(-16.55,-2.75) 38(-16.55,-3.25) 39(-16.55,-3.75) 40(-16.55,-4.25) 41(-16.55,-4.75) 42(-16.55,-5.25) 43(-16.55,-5.75) 44(-16.55,-6.25) 45(-16.55,-6.75) 46(-16.55,-7.25) 47(-16.55,-7.75) 48(-16.55,-8.25) 49(-16.55,-8.75) 50(-16.55,-9.25) 51(-16.55,-9.75) 52(-16.55,-10.25) 53(-16.55,-10.75) 54(-16.55,-11.25) 55(-16.55,-11.75) 56(-16.55,-12.25) 57(-16.55,-12.75) 58(-16.55,-13.25) 59(-16.55,-13.75) 60(-16.55,-14.25) 61(-16.55,-14.75) 62(-16.55,-15.25) 125(16.55,-15.25) 126(16.55,-14.75) 127(16.55,-14.25) 128(16.55,-13.75) 129(16.55,-13.25) 130(16.55,-12.75) 131(16.55,-12.25) 132(16.55,-11.75) 133(16.55,-11.25) 134(16.55,-10.75) 135(16.55,-10.25) 136(16.55,-9.75) 137(16.55,-9.25) 138(16.55,-8.75) 139(16.55,-8.25) 140(16.55,-7.75) 141(16.55,-7.25) 142(16.55,-6.75) 143(16.55,-6.25) 144(16.55,-5.75) 145(16.55,-5.25) 146(16.55,-4.75) 147(16.55,-4.25) 148(16.55,-3.75) 149(16.55,-3.25) 150(16.55,-2.75) 151(16.55,-2.25) 152(16.55,-1.75) 153(16.55,-1.25) 154(16.55,-0.75) 155(16.55,-0.25) 156(16.55,0.25) 157(16.55,0.75) 158(16.55,1.25) 159(16.55,1.75) 160(16.55,2.25) 161(16.55,2.75) 162(16.55,3.25) 163(16.55,3.75) 164(16.55,4.25) 165(16.55,4.75) 166(16.55,5.25) 167(16.55,5.75) 168(16.55,6.25) 169(16.55,6.75) 170(16.55,7.25) 171(16.55,7.75) 172(16.55,8.25) 173(16.55,8.75) 174(16.55,9.25) 175(16.55,9.75) 176(16.55,10.25) 177(16.55,10.75) 178(16.55,11.25) 179(16.55,11.75) 180(16.55,12.25) 181(16.55,12.75) 182(16.55,13.25) 183(16.55,13.75) 184(16.55,14.25) 185(16.55,14.75) 186(16.55,15.25)
  oval 0.3x1.8 smd: 63(-15.25,-16.55) 64(-14.75,-16.55) 65(-14.25,-16.55) 66(-13.75,-16.55) 67(-13.25,-16.55) 68(-12.75,-16.55) 69(-12.25,-16.55) 70(-11.75,-16.55) 71(-11.25,-16.55) 72(-10.75,-16.55) 73(-10.25,-16.55) 74(-9.75,-16.55) 75(-9.25,-16.55) 76(-8.75,-16.55) 77(-8.25,-16.55) 78(-7.75,-16.55) 79(-7.25,-16.55) 80(-6.75,-16.55) 81(-6.25,-16.55) 82(-5.75,-16.55) 83(-5.25,-16.55) 84(-4.75,-16.55) 85(-4.25,-16.55) 86(-3.75,-16.55) 87(-3.25,-16.55) 88(-2.75,-16.55) 89(-2.25,-16.55) 90(-1.75,-16.55) 91(-1.25,-16.55) 92(-0.75,-16.55) 93(-0.25,-16.55) 94(0.25,-16.55) 95(0.75,-16.55) 96(1.25,-16.55) 97(1.75,-16.55) 98(2.25,-16.55) 99(2.75,-16.55) 100(3.25,-16.55) 101(3.75,-16.55) 102(4.25,-16.55) 103(4.75,-16.55) 104(5.25,-16.55) 105(5.75,-16.55) 106(6.25,-16.55) 107(6.75,-16.55) 108(7.25,-16.55) 109(7.75,-16.55) 110(8.25,-16.55) 111(8.75,-16.55) 112(9.25,-16.55) 113(9.75,-16.55) 114(10.25,-16.55) 115(10.75,-16.55) 116(11.25,-16.55) 117(11.75,-16.55) 118(12.25,-16.55) 119(12.75,-16.55) 120(13.25,-16.55) 121(13.75,-16.55) 122(14.25,-16.55) 123(14.75,-16.55) 124(15.25,-16.55) 187(15.25,16.55) 188(14.75,16.55) 189(14.25,16.55) 190(13.75,16.55) 191(13.25,16.55) 192(12.75,16.55) 193(12.25,16.55) 194(11.75,16.55) 195(11.25,16.55) 196(10.75,16.55) 197(10.25,16.55) 198(9.75,16.55) 199(9.25,16.55) 200(8.75,16.55) 201(8.25,16.55) 202(7.75,16.55) 203(7.25,16.55) 204(6.75,16.55) 205(6.25,16.55) 206(5.75,16.55) 207(5.25,16.55) 208(4.75,16.55) 209(4.25,16.55) 210(3.75,16.55) 211(3.25,16.55) 212(2.75,16.55) 213(2.25,16.55) 214(1.75,16.55) 215(1.25,16.55) 216(0.75,16.55) 217(0.25,16.55) 218(-0.25,16.55) 219(-0.75,16.55) 220(-1.25,16.55) 221(-1.75,16.55) 222(-2.25,16.55) 223(-2.75,16.55) 224(-3.25,16.55) 225(-3.75,16.55) 226(-4.25,16.55) 227(-4.75,16.55) 228(-5.25,16.55) 229(-5.75,16.55) 230(-6.25,16.55) 231(-6.75,16.55) 232(-7.25,16.55) 233(-7.75,16.55) 234(-8.25,16.55) 235(-8.75,16.55) 236(-9.25,16.55) 237(-9.75,16.55) 238(-10.25,16.55) 239(-10.75,16.55) 240(-11.25,16.55) 241(-11.75,16.55) 242(-12.25,16.55) 243(-12.75,16.55) 244(-13.25,16.55) 245(-13.75,16.55) 246(-14.25,16.55) 247(-14.75,16.55) 248(-15.25,16.55)
Top Overlay:
  circle w0.6: c-14.25,14.25 r0.3
  circle w0.25: c-16.55,15.95 r0.125
  lines w0.2: -15.25,-15.25 15.25,-15.25 15.25,15.25 -15.25,15.25 -15.25,-15.25
Mechanical 13:
  circle w0.1: c-15.1,15.1 r0.5
  lines w0.1: -16,-16 16,-16 16,16 -16,16 -16,-16
Mechanical 15:
  lines w0.1: -0.5,0 0.5,0 ; 0,-0.5 0,0.5 ; -17.7,-17.7 17.7,-17.7 17.7,17.7 -17.7,17.7 -17.7,-17.7
3D body: height 4.2, standoff 0, extent -16,-16 16,16

## SQFP50P3460X3460-240N [mm] "Shrink QFP, 240-Leads, Body 32x32mm, Pitch 0.5mm, IPC Medium Density"
height 4.1
pads (240):
  oval 1.8x0.3 smd: 1(-16.85,14.75) 2(-16.85,14.25) 3(-16.85,13.75) 4(-16.85,13.25) 5(-16.85,12.75) 6(-16.85,12.25) 7(-16.85,11.75) 8(-16.85,11.25) 9(-16.85,10.75) 10(-16.85,10.25) 11(-16.85,9.75) 12(-16.85,9.25) 13(-16.85,8.75) 14(-16.85,8.25) 15(-16.85,7.75) 16(-16.85,7.25) 17(-16.85,6.75) 18(-16.85,6.25) 19(-16.85,5.75) 20(-16.85,5.25) 21(-16.85,4.75) 22(-16.85,4.25) 23(-16.85,3.75) 24(-16.85,3.25) 25(-16.85,2.75) 26(-16.85,2.25) 27(-16.85,1.75) 28(-16.85,1.25) 29(-16.85,0.75) 30(-16.85,0.25) 31(-16.85,-0.25) 32(-16.85,-0.75) 33(-16.85,-1.25) 34(-16.85,-1.75) 35(-16.85,-2.25) 36(-16.85,-2.75) 37(-16.85,-3.25) 38(-16.85,-3.75) 39(-16.85,-4.25) 40(-16.85,-4.75) 41(-16.85,-5.25) 42(-16.85,-5.75) 43(-16.85,-6.25) 44(-16.85,-6.75) 45(-16.85,-7.25) 46(-16.85,-7.75) 47(-16.85,-8.25) 48(-16.85,-8.75) 49(-16.85,-9.25) 50(-16.85,-9.75) 51(-16.85,-10.25) 52(-16.85,-10.75) 53(-16.85,-11.25) 54(-16.85,-11.75) 55(-16.85,-12.25) 56(-16.85,-12.75) 57(-16.85,-13.25) 58(-16.85,-13.75) 59(-16.85,-14.25) 60(-16.85,-14.75) 121(16.85,-14.75) 122(16.85,-14.25) 123(16.85,-13.75) 124(16.85,-13.25) 125(16.85,-12.75) 126(16.85,-12.25) 127(16.85,-11.75) 128(16.85,-11.25) 129(16.85,-10.75) 130(16.85,-10.25) 131(16.85,-9.75) 132(16.85,-9.25) 133(16.85,-8.75) 134(16.85,-8.25) 135(16.85,-7.75) 136(16.85,-7.25) 137(16.85,-6.75) 138(16.85,-6.25) 139(16.85,-5.75) 140(16.85,-5.25) 141(16.85,-4.75) 142(16.85,-4.25) 143(16.85,-3.75) 144(16.85,-3.25) 145(16.85,-2.75) 146(16.85,-2.25) 147(16.85,-1.75) 148(16.85,-1.25) 149(16.85,-0.75) 150(16.85,-0.25) 151(16.85,0.25) 152(16.85,0.75) 153(16.85,1.25) 154(16.85,1.75) 155(16.85,2.25) 156(16.85,2.75) 157(16.85,3.25) 158(16.85,3.75) 159(16.85,4.25) 160(16.85,4.75) 161(16.85,5.25) 162(16.85,5.75) 163(16.85,6.25) 164(16.85,6.75) 165(16.85,7.25) 166(16.85,7.75) 167(16.85,8.25) 168(16.85,8.75) 169(16.85,9.25) 170(16.85,9.75) 171(16.85,10.25) 172(16.85,10.75) 173(16.85,11.25) 174(16.85,11.75) 175(16.85,12.25) 176(16.85,12.75) 177(16.85,13.25) 178(16.85,13.75) 179(16.85,14.25) 180(16.85,14.75)
  oval 0.3x1.8 smd: 61(-14.75,-16.85) 62(-14.25,-16.85) 63(-13.75,-16.85) 64(-13.25,-16.85) 65(-12.75,-16.85) 66(-12.25,-16.85) 67(-11.75,-16.85) 68(-11.25,-16.85) 69(-10.75,-16.85) 70(-10.25,-16.85) 71(-9.75,-16.85) 72(-9.25,-16.85) 73(-8.75,-16.85) 74(-8.25,-16.85) 75(-7.75,-16.85) 76(-7.25,-16.85) 77(-6.75,-16.85) 78(-6.25,-16.85) 79(-5.75,-16.85) 80(-5.25,-16.85) 81(-4.75,-16.85) 82(-4.25,-16.85) 83(-3.75,-16.85) 84(-3.25,-16.85) 85(-2.75,-16.85) 86(-2.25,-16.85) 87(-1.75,-16.85) 88(-1.25,-16.85) 89(-0.75,-16.85) 90(-0.25,-16.85) 91(0.25,-16.85) 92(0.75,-16.85) 93(1.25,-16.85) 94(1.75,-16.85) 95(2.25,-16.85) 96(2.75,-16.85) 97(3.25,-16.85) 98(3.75,-16.85) 99(4.25,-16.85) 100(4.75,-16.85) 101(5.25,-16.85) 102(5.75,-16.85) 103(6.25,-16.85) 104(6.75,-16.85) 105(7.25,-16.85) 106(7.75,-16.85) 107(8.25,-16.85) 108(8.75,-16.85) 109(9.25,-16.85) 110(9.75,-16.85) 111(10.25,-16.85) 112(10.75,-16.85) 113(11.25,-16.85) 114(11.75,-16.85) 115(12.25,-16.85) 116(12.75,-16.85) 117(13.25,-16.85) 118(13.75,-16.85) 119(14.25,-16.85) 120(14.75,-16.85) 181(14.75,16.85) 182(14.25,16.85) 183(13.75,16.85) 184(13.25,16.85) 185(12.75,16.85) 186(12.25,16.85) 187(11.75,16.85) 188(11.25,16.85) 189(10.75,16.85) 190(10.25,16.85) 191(9.75,16.85) 192(9.25,16.85) 193(8.75,16.85) 194(8.25,16.85) 195(7.75,16.85) 196(7.25,16.85) 197(6.75,16.85) 198(6.25,16.85) 199(5.75,16.85) 200(5.25,16.85) 201(4.75,16.85) 202(4.25,16.85) 203(3.75,16.85) 204(3.25,16.85) 205(2.75,16.85) 206(2.25,16.85) 207(1.75,16.85) 208(1.25,16.85) 209(0.75,16.85) 210(0.25,16.85) 211(-0.25,16.85) 212(-0.75,16.85) 213(-1.25,16.85) 214(-1.75,16.85) 215(-2.25,16.85) 216(-2.75,16.85) 217(-3.25,16.85) 218(-3.75,16.85) 219(-4.25,16.85) 220(-4.75,16.85) 221(-5.25,16.85) 222(-5.75,16.85) 223(-6.25,16.85) 224(-6.75,16.85) 225(-7.25,16.85) 226(-7.75,16.85) 227(-8.25,16.85) 228(-8.75,16.85) 229(-9.25,16.85) 230(-9.75,16.85) 231(-10.25,16.85) 232(-10.75,16.85) 233(-11.25,16.85) 234(-11.75,16.85) 235(-12.25,16.85) 236(-12.75,16.85) 237(-13.25,16.85) 238(-13.75,16.85) 239(-14.25,16.85) 240(-14.75,16.85)
Top Overlay:
  circle w0.6: c-14.55,14.55 r0.3
  circle w0.25: c-16.85,15.45 r0.125
  lines w0.2: -15.55,-15.55 15.55,-15.55 15.55,15.55 -15.55,15.55 -15.55,-15.55
Mechanical 13:
  circle w0.1: c-15.1,15.1 r0.5
  lines w0.1: -16,-16 16,-16 16,16 -16,16 -16,-16
Mechanical 15:
  lines w0.1: -0.5,0 0.5,0 ; 0,-0.5 0,0.5 ; -18,-18 18,-18 18,18 -18,18 -18,-18
3D body: height 4.1, standoff 0, extent -16,-16 16,16

## SQFP50P3800X3800-272N [mm] "Shrink QFP, 272-Leads, Body 36x36mm, Pitch 0.5mm, IPC Medium Density"
height 4.2
pads (272):
  oval 1.8x0.3 smd: 1(-18.55,16.75) 2(-18.55,16.25) 3(-18.55,15.75) 4(-18.55,15.25) 5(-18.55,14.75) 6(-18.55,14.25) 7(-18.55,13.75) 8(-18.55,13.25) 9(-18.55,12.75) 10(-18.55,12.25) 11(-18.55,11.75) 12(-18.55,11.25) 13(-18.55,10.75) 14(-18.55,10.25) 15(-18.55,9.75) 16(-18.55,9.25) 17(-18.55,8.75) 18(-18.55,8.25) 19(-18.55,7.75) 20(-18.55,7.25) 21(-18.55,6.75) 22(-18.55,6.25) 23(-18.55,5.75) 24(-18.55,5.25) 25(-18.55,4.75) 26(-18.55,4.25) 27(-18.55,3.75) 28(-18.55,3.25) 29(-18.55,2.75) 30(-18.55,2.25) 31(-18.55,1.75) 32(-18.55,1.25) 33(-18.55,0.75) 34(-18.55,0.25) 35(-18.55,-0.25) 36(-18.55,-0.75) 37(-18.55,-1.25) 38(-18.55,-1.75) 39(-18.55,-2.25) 40(-18.55,-2.75) 41(-18.55,-3.25) 42(-18.55,-3.75) 43(-18.55,-4.25) 44(-18.55,-4.75) 45(-18.55,-5.25) 46(-18.55,-5.75) 47(-18.55,-6.25) 48(-18.55,-6.75) 49(-18.55,-7.25) 50(-18.55,-7.75) 51(-18.55,-8.25) 52(-18.55,-8.75) 53(-18.55,-9.25) 54(-18.55,-9.75) 55(-18.55,-10.25) 56(-18.55,-10.75) 57(-18.55,-11.25) 58(-18.55,-11.75) 59(-18.55,-12.25) 60(-18.55,-12.75) 61(-18.55,-13.25) 62(-18.55,-13.75) 63(-18.55,-14.25) 64(-18.55,-14.75) 65(-18.55,-15.25) 66(-18.55,-15.75) 67(-18.55,-16.25) 68(-18.55,-16.75) 137(18.55,-16.75) 138(18.55,-16.25) 139(18.55,-15.75) 140(18.55,-15.25) 141(18.55,-14.75) 142(18.55,-14.25) 143(18.55,-13.75) 144(18.55,-13.25) 145(18.55,-12.75) 146(18.55,-12.25) 147(18.55,-11.75) 148(18.55,-11.25) 149(18.55,-10.75) 150(18.55,-10.25) 151(18.55,-9.75) 152(18.55,-9.25) 153(18.55,-8.75) 154(18.55,-8.25) 155(18.55,-7.75) 156(18.55,-7.25) 157(18.55,-6.75) 158(18.55,-6.25) 159(18.55,-5.75) 160(18.55,-5.25) 161(18.55,-4.75) 162(18.55,-4.25) 163(18.55,-3.75) 164(18.55,-3.25) 165(18.55,-2.75) 166(18.55,-2.25) 167(18.55,-1.75) 168(18.55,-1.25) 169(18.55,-0.75) 170(18.55,-0.25) 171(18.55,0.25) 172(18.55,0.75) 173(18.55,1.25) 174(18.55,1.75) 175(18.55,2.25) 176(18.55,2.75) 177(18.55,3.25) 178(18.55,3.75) 179(18.55,4.25) 180(18.55,4.75) 181(18.55,5.25) 182(18.55,5.75) 183(18.55,6.25) 184(18.55,6.75) 185(18.55,7.25) 186(18.55,7.75) 187(18.55,8.25) 188(18.55,8.75) 189(18.55,9.25) 190(18.55,9.75) 191(18.55,10.25) 192(18.55,10.75) 193(18.55,11.25) 194(18.55,11.75) 195(18.55,12.25) 196(18.55,12.75) 197(18.55,13.25) 198(18.55,13.75) 199(18.55,14.25) 200(18.55,14.75) 201(18.55,15.25) 202(18.55,15.75) 203(18.55,16.25) 204(18.55,16.75)
  oval 0.3x1.8 smd: 69(-16.75,-18.55) 70(-16.25,-18.55) 71(-15.75,-18.55) 72(-15.25,-18.55) 73(-14.75,-18.55) 74(-14.25,-18.55) 75(-13.75,-18.55) 76(-13.25,-18.55) 77(-12.75,-18.55) 78(-12.25,-18.55) 79(-11.75,-18.55) 80(-11.25,-18.55) 81(-10.75,-18.55) 82(-10.25,-18.55) 83(-9.75,-18.55) 84(-9.25,-18.55) 85(-8.75,-18.55) 86(-8.25,-18.55) 87(-7.75,-18.55) 88(-7.25,-18.55) 89(-6.75,-18.55) 90(-6.25,-18.55) 91(-5.75,-18.55) 92(-5.25,-18.55) 93(-4.75,-18.55) 94(-4.25,-18.55) 95(-3.75,-18.55) 96(-3.25,-18.55) 97(-2.75,-18.55) 98(-2.25,-18.55) 99(-1.75,-18.55) 100(-1.25,-18.55) 101(-0.75,-18.55) 102(-0.25,-18.55) 103(0.25,-18.55) 104(0.75,-18.55) 105(1.25,-18.55) 106(1.75,-18.55) 107(2.25,-18.55) 108(2.75,-18.55) 109(3.25,-18.55) 110(3.75,-18.55) 111(4.25,-18.55) 112(4.75,-18.55) 113(5.25,-18.55) 114(5.75,-18.55) 115(6.25,-18.55) 116(6.75,-18.55) 117(7.25,-18.55) 118(7.75,-18.55) 119(8.25,-18.55) 120(8.75,-18.55) 121(9.25,-18.55) 122(9.75,-18.55) 123(10.25,-18.55) 124(10.75,-18.55) 125(11.25,-18.55) 126(11.75,-18.55) 127(12.25,-18.55) 128(12.75,-18.55) 129(13.25,-18.55) 130(13.75,-18.55) 131(14.25,-18.55) 132(14.75,-18.55) 133(15.25,-18.55) 134(15.75,-18.55) 135(16.25,-18.55) 136(16.75,-18.55) 205(16.75,18.55) 206(16.25,18.55) 207(15.75,18.55) 208(15.25,18.55) 209(14.75,18.55) 210(14.25,18.55) 211(13.75,18.55) 212(13.25,18.55) 213(12.75,18.55) 214(12.25,18.55) 215(11.75,18.55) 216(11.25,18.55) 217(10.75,18.55) 218(10.25,18.55) 219(9.75,18.55) 220(9.25,18.55) 221(8.75,18.55) 222(8.25,18.55) 223(7.75,18.55) 224(7.25,18.55) 225(6.75,18.55) 226(6.25,18.55) 227(5.75,18.55) 228(5.25,18.55) 229(4.75,18.55) 230(4.25,18.55) 231(3.75,18.55) 232(3.25,18.55) 233(2.75,18.55) 234(2.25,18.55) 235(1.75,18.55) 236(1.25,18.55) 237(0.75,18.55) 238(0.25,18.55) 239(-0.25,18.55) 240(-0.75,18.55) 241(-1.25,18.55) 242(-1.75,18.55) 243(-2.25,18.55) 244(-2.75,18.55) 245(-3.25,18.55) 246(-3.75,18.55) 247(-4.25,18.55) 248(-4.75,18.55) 249(-5.25,18.55) 250(-5.75,18.55) 251(-6.25,18.55) 252(-6.75,18.55) 253(-7.25,18.55) 254(-7.75,18.55) 255(-8.25,18.55) 256(-8.75,18.55) 257(-9.25,18.55) 258(-9.75,18.55) 259(-10.25,18.55) 260(-10.75,18.55) 261(-11.25,18.55) 262(-11.75,18.55) 263(-12.25,18.55) 264(-12.75,18.55) 265(-13.25,18.55) 266(-13.75,18.55) 267(-14.25,18.55) 268(-14.75,18.55) 269(-15.25,18.55) 270(-15.75,18.55) 271(-16.25,18.55) 272(-16.75,18.55)
Top Overlay:
  circle w0.6: c-16.25,16.25 r0.3
  circle w0.25: c-18.55,17.45 r0.125
  lines w0.2: -17.25,-17.25 17.25,-17.25 17.25,17.25 -17.25,17.25 -17.25,-17.25
Mechanical 13:
  circle w0.1: c-17.1,17.1 r0.5
  lines w0.1: -18,-18 18,-18 18,18 -18,18 -18,-18
Mechanical 15:
  lines w0.1: -0.5,0 0.5,0 ; 0,-0.5 0,0.5 ; -19.7,-19.7 19.7,-19.7 19.7,19.7 -19.7,19.7 -19.7,-19.7
3D body: height 4.2, standoff 0, extent -18,-18 18,18

## SQFP50P3800X3800-280N [mm] "Shrink QFP, 280-Leads, Body 36x36mm, Pitch 0.5mm, IPC Medium Density"
height 4.2
pads (280):
  oval 1.8x0.3 smd: 1(-18.55,17.25) 2(-18.55,16.75) 3(-18.55,16.25) 4(-18.55,15.75) 5(-18.55,15.25) 6(-18.55,14.75) 7(-18.55,14.25) 8(-18.55,13.75) 9(-18.55,13.25) 10(-18.55,12.75) 11(-18.55,12.25) 12(-18.55,11.75) 13(-18.55,11.25) 14(-18.55,10.75) 15(-18.55,10.25) 16(-18.55,9.75) 17(-18.55,9.25) 18(-18.55,8.75) 19(-18.55,8.25) 20(-18.55,7.75) 21(-18.55,7.25) 22(-18.55,6.75) 23(-18.55,6.25) 24(-18.55,5.75) 25(-18.55,5.25) 26(-18.55,4.75) 27(-18.55,4.25) 28(-18.55,3.75) 29(-18.55,3.25) 30(-18.55,2.75) 31(-18.55,2.25) 32(-18.55,1.75) 33(-18.55,1.25) 34(-18.55,0.75) 35(-18.55,0.25) 36(-18.55,-0.25) 37(-18.55,-0.75) 38(-18.55,-1.25) 39(-18.55,-1.75) 40(-18.55,-2.25) 41(-18.55,-2.75) 42(-18.55,-3.25) 43(-18.55,-3.75) 44(-18.55,-4.25) 45(-18.55,-4.75) 46(-18.55,-5.25) 47(-18.55,-5.75) 48(-18.55,-6.25) 49(-18.55,-6.75) 50(-18.55,-7.25) 51(-18.55,-7.75) 52(-18.55,-8.25) 53(-18.55,-8.75) 54(-18.55,-9.25) 55(-18.55,-9.75) 56(-18.55,-10.25) 57(-18.55,-10.75) 58(-18.55,-11.25) 59(-18.55,-11.75) 60(-18.55,-12.25) 61(-18.55,-12.75) 62(-18.55,-13.25) 63(-18.55,-13.75) 64(-18.55,-14.25) 65(-18.55,-14.75) 66(-18.55,-15.25) 67(-18.55,-15.75) 68(-18.55,-16.25) 69(-18.55,-16.75) 70(-18.55,-17.25) 141(18.55,-17.25) 142(18.55,-16.75) 143(18.55,-16.25) 144(18.55,-15.75) 145(18.55,-15.25) 146(18.55,-14.75) 147(18.55,-14.25) 148(18.55,-13.75) 149(18.55,-13.25) 150(18.55,-12.75) 151(18.55,-12.25) 152(18.55,-11.75) 153(18.55,-11.25) 154(18.55,-10.75) 155(18.55,-10.25) 156(18.55,-9.75) 157(18.55,-9.25) 158(18.55,-8.75) 159(18.55,-8.25) 160(18.55,-7.75) 161(18.55,-7.25) 162(18.55,-6.75) 163(18.55,-6.25) 164(18.55,-5.75) 165(18.55,-5.25) 166(18.55,-4.75) 167(18.55,-4.25) 168(18.55,-3.75) 169(18.55,-3.25) 170(18.55,-2.75) 171(18.55,-2.25) 172(18.55,-1.75) 173(18.55,-1.25) 174(18.55,-0.75) 175(18.55,-0.25) 176(18.55,0.25) 177(18.55,0.75) 178(18.55,1.25) 179(18.55,1.75) 180(18.55,2.25) 181(18.55,2.75) 182(18.55,3.25) 183(18.55,3.75) 184(18.55,4.25) 185(18.55,4.75) 186(18.55,5.25) 187(18.55,5.75) 188(18.55,6.25) 189(18.55,6.75) 190(18.55,7.25) 191(18.55,7.75) 192(18.55,8.25) 193(18.55,8.75) 194(18.55,9.25) 195(18.55,9.75) 196(18.55,10.25) 197(18.55,10.75) 198(18.55,11.25) 199(18.55,11.75) 200(18.55,12.25) 201(18.55,12.75) 202(18.55,13.25) 203(18.55,13.75) 204(18.55,14.25) 205(18.55,14.75) 206(18.55,15.25) 207(18.55,15.75) 208(18.55,16.25) 209(18.55,16.75) 210(18.55,17.25)
  oval 0.3x1.8 smd: 71(-17.25,-18.55) 72(-16.75,-18.55) 73(-16.25,-18.55) 74(-15.75,-18.55) 75(-15.25,-18.55) 76(-14.75,-18.55) 77(-14.25,-18.55) 78(-13.75,-18.55) 79(-13.25,-18.55) 80(-12.75,-18.55) 81(-12.25,-18.55) 82(-11.75,-18.55) 83(-11.25,-18.55) 84(-10.75,-18.55) 85(-10.25,-18.55) 86(-9.75,-18.55) 87(-9.25,-18.55) 88(-8.75,-18.55) 89(-8.25,-18.55) 90(-7.75,-18.55) 91(-7.25,-18.55) 92(-6.75,-18.55) 93(-6.25,-18.55) 94(-5.75,-18.55) 95(-5.25,-18.55) 96(-4.75,-18.55) 97(-4.25,-18.55) 98(-3.75,-18.55) 99(-3.25,-18.55) 100(-2.75,-18.55) 101(-2.25,-18.55) 102(-1.75,-18.55) 103(-1.25,-18.55) 104(-0.75,-18.55) 105(-0.25,-18.55) 106(0.25,-18.55) 107(0.75,-18.55) 108(1.25,-18.55) 109(1.75,-18.55) 110(2.25,-18.55) 111(2.75,-18.55) 112(3.25,-18.55) 113(3.75,-18.55) 114(4.25,-18.55) 115(4.75,-18.55) 116(5.25,-18.55) 117(5.75,-18.55) 118(6.25,-18.55) 119(6.75,-18.55) 120(7.25,-18.55) 121(7.75,-18.55) 122(8.25,-18.55) 123(8.75,-18.55) 124(9.25,-18.55) 125(9.75,-18.55) 126(10.25,-18.55) 127(10.75,-18.55) 128(11.25,-18.55) 129(11.75,-18.55) 130(12.25,-18.55) 131(12.75,-18.55) 132(13.25,-18.55) 133(13.75,-18.55) 134(14.25,-18.55) 135(14.75,-18.55) 136(15.25,-18.55) 137(15.75,-18.55) 138(16.25,-18.55) 139(16.75,-18.55) 140(17.25,-18.55) 211(17.25,18.55) 212(16.75,18.55) 213(16.25,18.55) 214(15.75,18.55) 215(15.25,18.55) 216(14.75,18.55) 217(14.25,18.55) 218(13.75,18.55) 219(13.25,18.55) 220(12.75,18.55) 221(12.25,18.55) 222(11.75,18.55) 223(11.25,18.55) 224(10.75,18.55) 225(10.25,18.55) 226(9.75,18.55) 227(9.25,18.55) 228(8.75,18.55) 229(8.25,18.55) 230(7.75,18.55) 231(7.25,18.55) 232(6.75,18.55) 233(6.25,18.55) 234(5.75,18.55) 235(5.25,18.55) 236(4.75,18.55) 237(4.25,18.55) 238(3.75,18.55) 239(3.25,18.55) 240(2.75,18.55) 241(2.25,18.55) 242(1.75,18.55) 243(1.25,18.55) 244(0.75,18.55) 245(0.25,18.55) 246(-0.25,18.55) 247(-0.75,18.55) 248(-1.25,18.55) 249(-1.75,18.55) 250(-2.25,18.55) 251(-2.75,18.55) 252(-3.25,18.55) 253(-3.75,18.55) 254(-4.25,18.55) 255(-4.75,18.55) 256(-5.25,18.55) 257(-5.75,18.55) 258(-6.25,18.55) 259(-6.75,18.55) 260(-7.25,18.55) 261(-7.75,18.55) 262(-8.25,18.55) 263(-8.75,18.55) 264(-9.25,18.55) 265(-9.75,18.55) 266(-10.25,18.55) 267(-10.75,18.55) 268(-11.25,18.55) 269(-11.75,18.55) 270(-12.25,18.55) 271(-12.75,18.55) 272(-13.25,18.55) 273(-13.75,18.55) 274(-14.25,18.55) 275(-14.75,18.55) 276(-15.25,18.55) 277(-15.75,18.55) 278(-16.25,18.55) 279(-16.75,18.55) 280(-17.25,18.55)
Top Overlay:
  circle w0.6: c-16.25,16.25 r0.3
  circle w0.25: c-18.55,17.95 r0.125
  lines w0.2: -17.25,-17.25 17.25,-17.25 17.25,17.25 -17.25,17.25 -17.25,-17.25
Mechanical 13:
  circle w0.1: c-17.1,17.1 r0.5
  lines w0.1: -18,-18 18,-18 18,18 -18,18 -18,-18
Mechanical 15:
  lines w0.1: -0.5,0 0.5,0 ; 0,-0.5 0,0.5 ; -19.7,-19.7 19.7,-19.7 19.7,19.7 -19.7,19.7 -19.7,-19.7
3D body: height 4.2, standoff 0, extent -18,-18 18,18